# Altium integrated library Unified Resistors.IntLib: 39 symbols
Pins are listed as number, name and electrical type; pins without a type are passive.

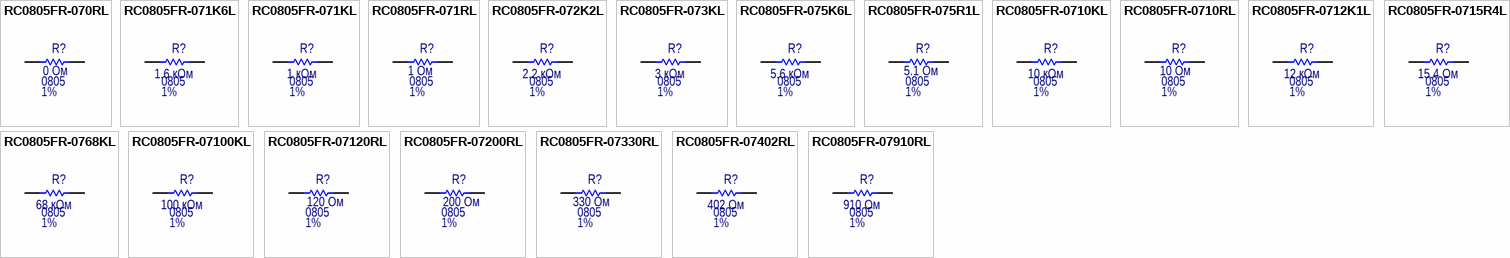
[diagram p0: symbols RC0805FR-070RL to RC0805FR-07910RL]

## RC0805FR-070RL
designator R?  value 0 Ом  Tolerance: 1%  Case: 0805  (hidden comment: RC0805FR-070RL)
footprint RES0805
pins: 1, 2

## RC0805FR-071K6L
designator R?  value 1.6 кОм  Tolerance: 1%  Case: 0805  (hidden comment: RC0805FR-071K6L)
footprint RES0805
pins: 1, 2

## RC0805FR-071KL
designator R?  value 1 кОм  Tolerance: 1%  Case: 0805  (hidden comment: RC0805FR-071KL)
footprint RES0805
pins: 1, 2

## RC0805FR-071RL
designator R?  value 1 Ом  Tolerance: 1%  Case: 0805  (hidden comment: RC0805FR-071RL)
footprint RES0805
pins: 1, 2

## RC0805FR-072K2L
designator R?  value 2.2 кОм  Tolerance: 1%  Case: 0805  (hidden comment: RC0805FR-072K2L)
footprint RES0805
pins: 1, 2

## RC0805FR-073KL
designator R?  value 3 кОм  Tolerance: 1%  Case: 0805  (hidden comment: RC0805FR-073KL)
footprint RES0805
pins: 1, 2

## RC0805FR-075K6L
designator R?  value 5.6 кОм  Tolerance: 1%  Case: 0805  (hidden comment: RC0805FR-075K6L)
footprint RES0805
pins: 1, 2

## RC0805FR-075R1L
designator R?  value 5.1 Ом  Tolerance: 1%  Case: 0805  (hidden comment: RC0805FR-075R1L)
footprint RES0805
pins: 1, 2

## RC0805FR-0710KL
designator R?  value 10 кОм  Tolerance: 1%  Case: 0805  (hidden comment: RC0805FR-0710KL)
footprint RES0805
pins: 1, 2

## RC0805FR-0710RL
designator R?  value 10 Ом  Tolerance: 1%  Case: 0805  (hidden comment: RC0805FR-0710RL)
footprint RES0805
pins: 1, 2

## RC0805FR-0712K1L
designator R?  value 12 кОм  Tolerance: 1%  Case: 0805  (hidden comment: RC0805FR-0712K1L)
footprint RES0805
pins: 1, 2

## RC0805FR-0715R4L
designator R?  value 15.4 Ом  Tolerance: 1%  Case: 0805  (hidden comment: RC0805FR-0715R4L)
footprint RES0805
pins: 1, 2

## RC0805FR-0768KL
designator R?  value 68 кОм  Tolerance: 1%  Case: 0805  (hidden comment: RC0805FR-0768KL)
footprint RES0805
pins: 1, 2

## RC0805FR-07100KL
designator R?  value 100 кОм  Tolerance: 1%  Case: 0805  (hidden comment: RC0805FR-07100KL)
footprint RES0805
pins: 1, 2

## RC0805FR-07120RL
designator R?  value 120 Ом  Tolerance: 1%  Case: 0805  (hidden comment: RC0805FR-07120RL)
footprint RES0805
pins: 1, 2

## RC0805FR-07200RL
designator R?  value 200 Ом  Tolerance: 1%  Case: 0805  (hidden comment: RC0805FR-07200RL)
footprint RES0805
pins: 1, 2

## RC0805FR-07330RL
designator R?  value 330 Ом  Tolerance: 1%  Case: 0805  (hidden comment: RC0805FR-07330RL)
footprint RES0805
pins: 1, 2

## RC0805FR-07402RL
designator R?  value 402 Ом  Tolerance: 1%  Case: 0805  (hidden comment: RC0805FR-07402RL)
footprint RES0805
pins: 1, 2

## RC0805FR-07910RL
designator R?  value 910 Ом  Tolerance: 1%  Case: 0805  (hidden comment: RC0805FR-07910RL)
footprint RES0805
pins: 1, 2


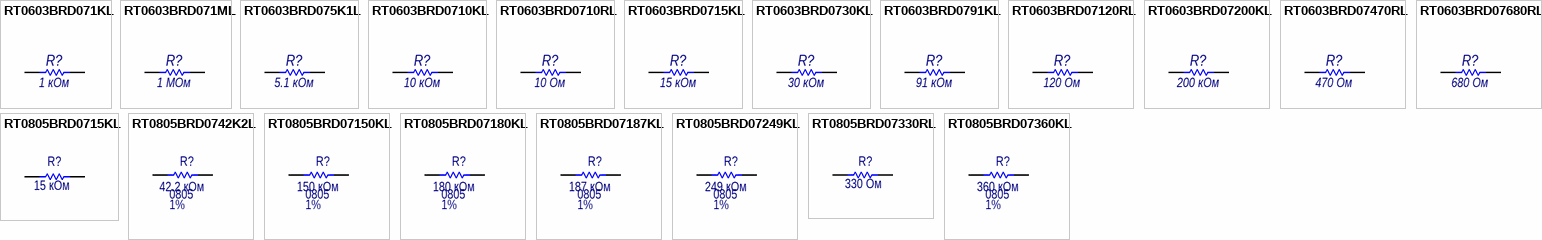
[diagram p1: symbols RT0603BRD071KL to RT0805BRD07360KL]

## RT0603BRD071KL
designator R?  value 1 кОм  (hidden comment: RT0603BRD071KL)
footprint RES0603
pins: 0, 1

## RT0603BRD071ML
designator R?  value 1 МОм  (hidden comment: RT0603BRD071ML)
footprint RESC1608X04L (Chip Resistor, 2-Leads, Body 1,60x0,85mm, IPC High Density)
pins: 0, 1

## RT0603BRD075K1L
designator R?  value 5.1 кОм  (hidden comment: RT0603BRD075K1L)
footprint RES0603
pins: 0, 1

## RT0603BRD0710KL
designator R?  value 10 кОм  (hidden comment: RT0603BRD0710KL)
footprint RES0603
pins: 0, 1

## RT0603BRD0710RL
designator R?  value 10 Ом  (hidden comment: RT0603BRD0710RL)
footprint RES0603
pins: 0, 1

## RT0603BRD0715KL
designator R?  value 15 кОм  (hidden comment: RT0603BRD0715KL)
footprint RES0603
pins: 0, 1

## RT0603BRD0730KL
designator R?  value 30 кОм  (hidden comment: RT0603BRD0730KL)
footprint RES0603
pins: 0, 1

## RT0603BRD0791KL
designator R?  value 91 кОм  (hidden comment: RT0603BRD0791KL)
footprint RES0603
pins: 0, 1

## RT0603BRD07120RL
designator R?  value 120 Ом  (hidden comment: RT0603BRD07120RL)
footprint RES0603
pins: 0, 1

## RT0603BRD07200KL
designator R?  value 200 кОм  (hidden comment: RT0603BRD07200KL)
footprint RES0603
pins: 0, 1

## RT0603BRD07470RL
designator R?  value 470 Ом  (hidden comment: RT0603BRD07470RL)
footprint RES0603
pins: 0, 1

## RT0603BRD07680RL
designator R?  value 680 Ом  (hidden comment: RT0603BRD07680RL)
footprint RES0603
pins: 0, 1

## RT0805BRD0715KL
designator R?  value 15 кОм  (hidden comment: RT0805BRD0715KL)
footprint RES0805
footprint R0805 (2012M)
pins: 1, 2

## RT0805BRD0742K2L
designator R?  value 42.2 кОм  Tolerance: 1%  Case: 0805  (hidden comment: RT0805BRD0742K2L)
footprint RES0805
pins: 1, 2

## RT0805BRD07150KL
designator R?  value 150 кОм  Tolerance: 1%  Case: 0805  (hidden comment: RT0805BRD07150KL)
footprint RES0805
pins: 1, 2

## RT0805BRD07180KL
designator R?  value 180 кОм  Tolerance: 1%  Case: 0805  (hidden comment: RT0805BRD07180KL)
footprint RES0805
pins: 1, 2

## RT0805BRD07187KL
designator R?  value 187 кОм  Tolerance: 1%  Case: 0805  (hidden comment: RT0805BRD07187KL)
footprint RES0805
pins: 1, 2

## RT0805BRD07249KL
designator R?  value 249 кОм  Tolerance: 1%  Case: 0805  (hidden comment: RT0805BRD07249KL)
footprint RES0805
pins: 1, 2

## RT0805BRD07330RL
designator R?  value 330 Ом  (hidden comment: RT0805BRD07330RL)
footprint RES0805
pins: 1, 2

## RT0805BRD07360KL
designator R?  value 360 кОм  Tolerance: 1%  Case: 0805  (hidden comment: RT0805BRD07360KL)
footprint RES0805
pins: 1, 2